# EAGLE library part 24AA1026SOIC (library 24xx1026SOIC)
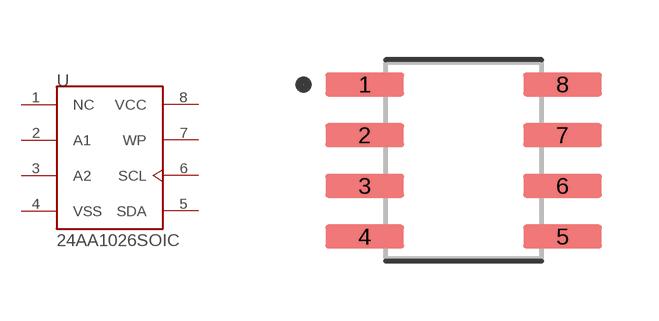
[diagram p0: symbol with the pads of 24AA1026SOIC; footprint 24AA1026SOIC]

Designator prefix -

## 24AA1026SOIC  [24AA1026SOIC]
1  NC  nc
2  A1  in
3  A2  in
4  VSS  pwr
5  SDA
6  SCL
7  WP  in
8  VCC  pwr

## Footprint 24AA1026SOIC (pad centres in mm)
smd 1.97 x 0.6: 1 -2.475,1.905; 2 -2.475,0.635; 3 -2.475,-0.635; 4 -2.475,-1.905; 5 2.475,-1.905; 6 2.475,-0.635; 7 2.475,0.635; 8 2.475,1.905